# Altium schematic symbol library Photoelectrics.SchLib: 5 symbols
Pins are listed as number, name and electrical type; pins without a type are passive.

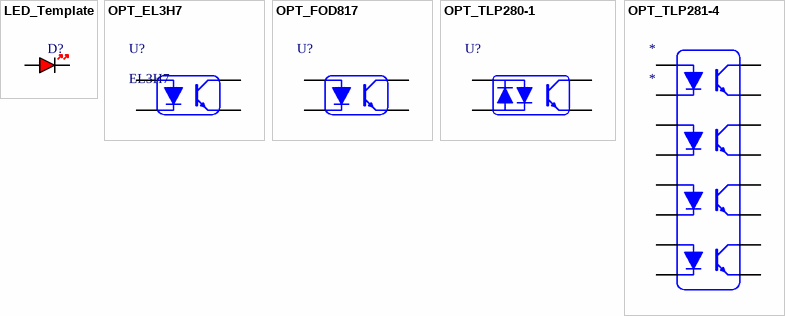
[diagram p0: symbols LED_Template to OPT_TLP281-4]

## LED_Template
designator D?, comment ?  (value not drawn)
Where is the description?; Color: ?; JLCPCB Part: ?; LCSC Part: ?; Mfr. Part: ?
pins: A, K

## OPT_EL3H7
designator U?, comment EL3H7
80V 3750V 50mA 0.1V@1mA,10mA 1 6V 1.2V DC SOP-4-1.27mm Optocouplers - Phototransistor Output ROHS; JLCPCB Part: ?; LCSC Part: ?; Mfr. Part: ?
footprint OPT_EL3H7
pins: 1, 2, 3, 4

## OPT_FOD817
designator U?, comment FOD817  (value not drawn)
70V 5000V 50mA 0.1V@1mA,20mA 1 6V 1.2V DC SOP-4-2.54mm Optocouplers - Phototransistor Output ROHS; JLCPCB Part: ?; LCSC Part: ?; Mfr. Part: ?
footprint OPT_817
pins: 1, 2, 3, 4

## OPT_TLP280-1
designator U?, comment TLP280-1  (value not drawn)
JLCPCB Part: *; LCSC Part: *; Mfr. Part: *
footprint OPT_TPL280
pins: 1, 2, 3, 4

## OPT_TLP281-4
designator *
pins: 1, 1, 1, 1, 2, 2, 2, 2, 3, 3, 3, 3, 4, 4, 4, 4